# Altium footprint library Componentes_3D.PcbLib: 10 footprints
Each footprint in its own frame and in the unit in brackets; x right, y up, seen from the top. Pads: shape width x height; smd on the part's side, far side on the other; paste and mask are expansions set on the pad; w line width, h text height; cw(c..) or ccw(c..) is an arc to the next point about the centre after c.
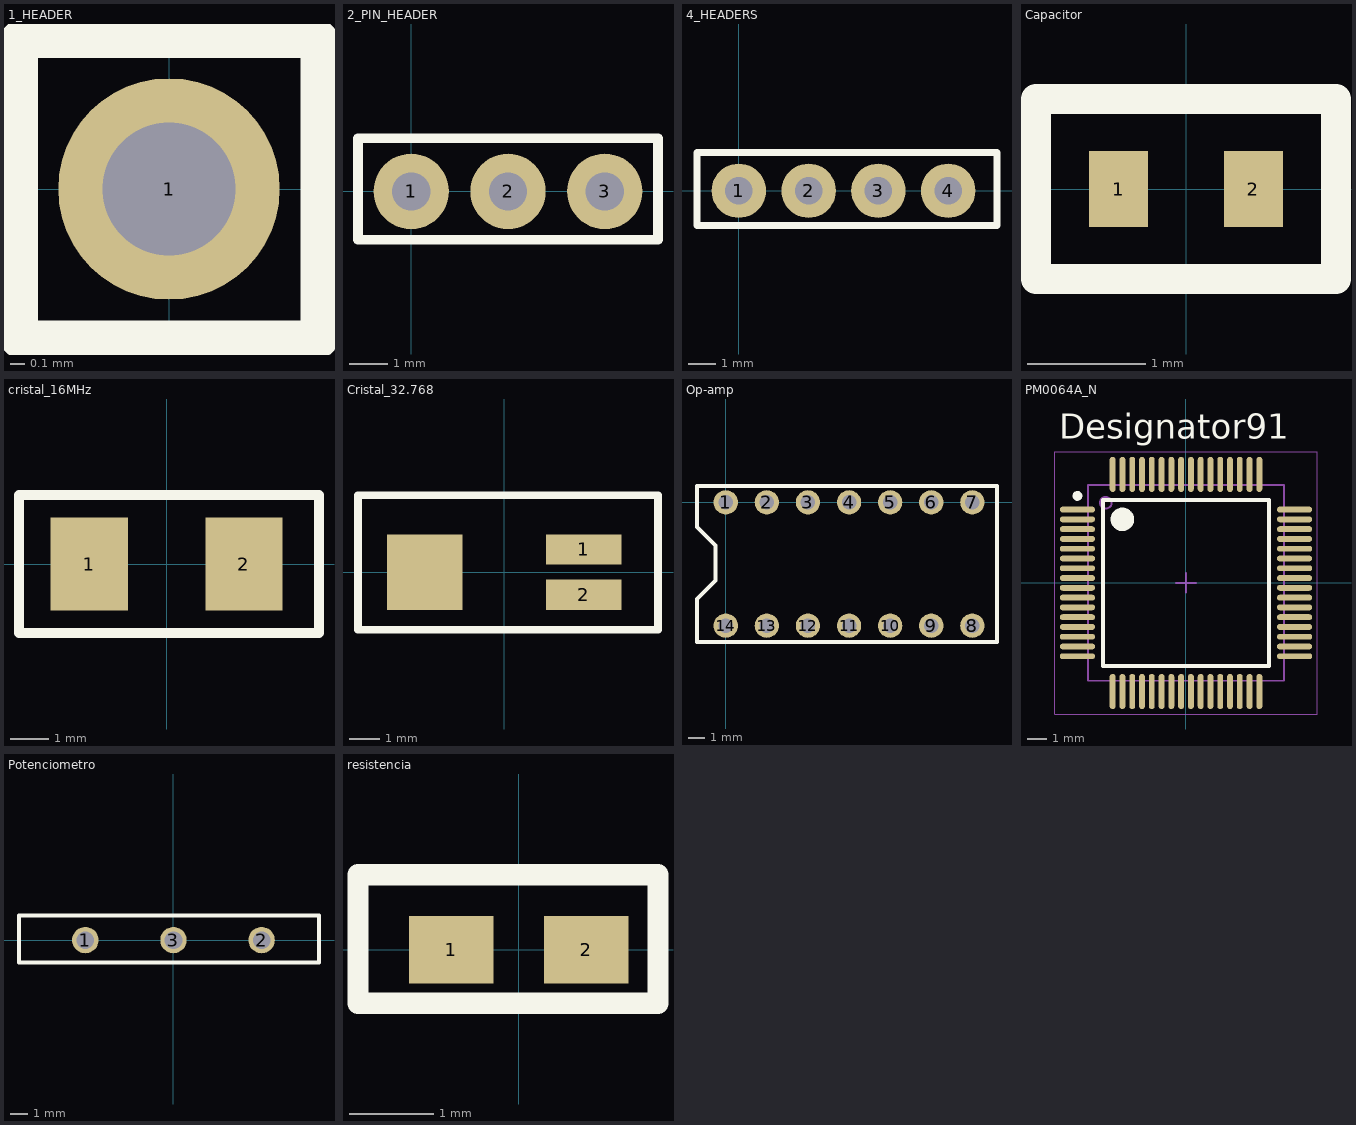
[diagram p0: the footprints below, top view; thin cyan lines are the x and y axes]

## 1_HEADER [mm]
pads (1):
  round 1.5 hole 0.9: 1(0,0)
Top Overlay:
  lines w0.254: -1.016,-1.016 1.016,-1.016 1.016,1.016 -1.016,1.016 -1.016,-1.016

## 2_PIN_HEADER [mm]
pads (3):
  round 1.98 hole 1: 1(0,0) 2(2.54,0) 3(5.08,0)
Top Overlay:
  lines w0.254: -1.397,-1.27 -1.397,1.397 6.477,1.397 6.477,-1.27 -1.397,-1.27

## 4_HEADERS [mm]
pads (4):
  round 1.98 hole 1: 1(0,0) 2(2.54,0) 3(5.08,0) 4(7.62,0)
Top Overlay:
  lines w0.254: -1.524,-1.27 9.398,-1.27 9.398,1.397 -1.524,1.397 -1.524,-1.27

## Capacitor [mm]
pads (2):
  rect 0.5x0.64 smd: 1(-0.57,0)
  rect 0.5x0.64 smd mask+0.102: 2(0.57,0)
Top Overlay:
  lines w0.254: -1.27,-0.762 1.27,-0.762 1.27,0.762 -1.27,0.762 -1.27,-0.762
3D body "Capacitor.step": height 0.5, standoff 0, extent -0.498,-0.246 0.498,0.254

## cristal_16MHz [mm]
pads (2):
  rect 2x2.4 smd: 1(-2,0) 2(2,0)
Top Overlay:
  lines w0.254: -3.81,-1.778 3.937,-1.778 3.937,1.778 -3.81,1.778 -3.81,-1.778
3D body "Crystal ABM3-16.000MHZ-B2-T.stp": height 1.31, standoff 0, extent -2.436,-1.6 2.564,1.6

## Cristal_32.768 [mm]
pads (3):
  rect 2.5x1 smd: 1(2.625,0.75) 2(2.625,-0.75)
  rect 2.5x2.5 smd: ""(-2.625,0)
Top Overlay:
  lines w0.254: -4.826,-1.905 -4.826,2.54 5.08,2.54 5.08,-1.905 -4.826,-1.905
3D body "Cristal_32.768.step": height 2, standoff 0, extent -5.461,-1.4 3.539,1.4

## Op-amp [mm]
pads (14):
  round 1.5 hole 0.9: 1(0,0) 2(2.54,0) 3(5.08,0) 4(7.62,0) 5(10.16,0) 6(12.7,0) 7(15.24,0) 8(15.24,-7.62) 9(12.7,-7.62) 10(10.16,-7.62) 11(7.62,-7.62) 12(5.08,-7.62) 13(2.54,-7.62) 14(0,-7.62)
Top Overlay:
  lines w0.254: -1.778,-8.636 16.764,-8.636 16.764,1.016 -1.778,1.016 -1.778,0.381 -1.778,-1.524 -0.635,-2.667 -0.635,-4.826 -1.778,-5.969 -1.778,-8.636
3D body "lm324.step": height 4.3, standoff -2.88, extent -1.27,-7.87 16.51,0

## PM0064A_N [mm]
pads (64):
  oval 1.8x0.3 smd paste-0.102 mask+0.051: 1(-5.55,3.75) 2(-5.55,3.25) 3(-5.55,2.75) 4(-5.55,2.25) 5(-5.55,1.75) 6(-5.55,1.25) 7(-5.55,0.75) 8(-5.55,0.25) 9(-5.55,-0.25) 10(-5.55,-0.75) 11(-5.55,-1.25) 12(-5.55,-1.75) 13(-5.55,-2.25) 14(-5.55,-2.75) 15(-5.55,-3.25) 16(-5.55,-3.75) 33(5.55,-3.75) 34(5.55,-3.25) 35(5.55,-2.75) 36(5.55,-2.25) 37(5.55,-1.75) 38(5.55,-1.25) 39(5.55,-0.75) 40(5.55,-0.25) 41(5.55,0.25) 42(5.55,0.75) 43(5.55,1.25) 44(5.55,1.75) 45(5.55,2.25) 46(5.55,2.75) 47(5.55,3.25) 48(5.55,3.75)
  oval 0.3x1.8 smd paste-0.102 mask+0.051: 17(-3.75,-5.55) 18(-3.25,-5.55) 19(-2.75,-5.55) 20(-2.25,-5.55) 21(-1.75,-5.55) 22(-1.25,-5.55) 23(-0.75,-5.55) 24(-0.25,-5.55) 25(0.25,-5.55) 26(0.75,-5.55) 27(1.25,-5.55) 28(1.75,-5.55) 29(2.25,-5.55) 30(2.75,-5.55) 31(3.25,-5.55) 32(3.75,-5.55) 49(3.75,5.55) 50(3.25,5.55) 51(2.75,5.55) 52(2.25,5.55) 53(1.75,5.55) 54(1.25,5.55) 55(0.75,5.55) 56(0.25,5.55) 57(-0.25,5.55) 58(-0.75,5.55) 59(-1.25,5.55) 60(-1.75,5.55) 61(-2.25,5.55) 62(-2.75,5.55) 63(-3.25,5.55) 64(-3.75,5.55)
Top Overlay:
  circle w0.25: c-5.55,4.45 r0.125
  circle w0.6: c-3.25,3.25 r0.3
  lines w0.2: -4.25,-4.25 -4.25,4.25 4.25,4.25 4.25,-4.25 -4.25,-4.25
  text "Designator91" at -6.477,7.366 h1.27
Mechanical 13:
  circle w0.1: c-4.1,4.1 r0.3
  lines w0.1: -5,-5 -5,5 5,5 5,-5 -5,-5
  text ".Designator" at -1.854,-1.143 h1.27
Mechanical 15:
  lines w0.05: -6.7,-6.7 -6.7,6.7 6.7,6.7 6.7,-6.7 -6.7,-6.7
  lines w0.1: -0.5,0 0.5,0 ; 0,-0.5 0,0.5
3D body "TM4G123C.STEP": height 1, standoff 0, extent -5.791,-5.787 5.79,5.787
3D body: height 0.25, standoff 0, extent 0,0 0.254,0.254

## Potenciometro [mm]
pads (3):
  round 1.5 hole 1: 1(-5,0) 2(5,0) 3(0,0)
Top Overlay:
  lines w0.254: -8.763,-1.27 -8.763,1.397 8.255,1.397 8.255,-1.27 -8.763,-1.27
3D body "PotentiometerAssy.STEP": height 21.5, standoff -3.25, extent -7.972,-22.128 8.128,5.872

## resistencia [mm]
pads (2):
  rect 1x0.8 smd: 1(-0.8,0) 2(0.8,0)
Top Overlay:
  lines w0.254: -1.905,-0.635 1.651,-0.635 1.651,0.889 -1.905,0.889 -1.905,-0.635
3D body "Resistencia.step": height 0.45, standoff 0, extent -0.95,-0.4 0.95,0.4